# Altium schematic symbol library SCH - SWITCH - TI TPS2061DGNR.Schlib: 1 symbol
Pins are listed as number, name and electrical type; pins without a type are passive.

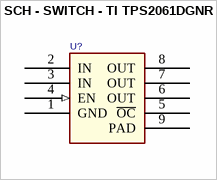
[diagram p0: symbol SCH - SWITCH - TI TPS2061DGNR]

## SCH - SWITCH - TI TPS2061DGNR
designator U?
footprint DGN-16X60
pins: 1 GND (power), 2 IN (power), 3 IN (power), 4 EN (in), 5 ~{OC}, 6 OUT (power), 7 OUT (power), 8 OUT (power), 9 PAD